# Altium footprint library SOP100P600X175-10N.PcbLib: 1 footprints
Each footprint in its own frame and in the unit in brackets; x right, y up, seen from the top. Pads: shape width x height; smd on the part's side, far side on the other; paste and mask are expansions set on the pad; w line width, h text height; cw(c..) or ccw(c..) is an arc to the next point about the centre after c.
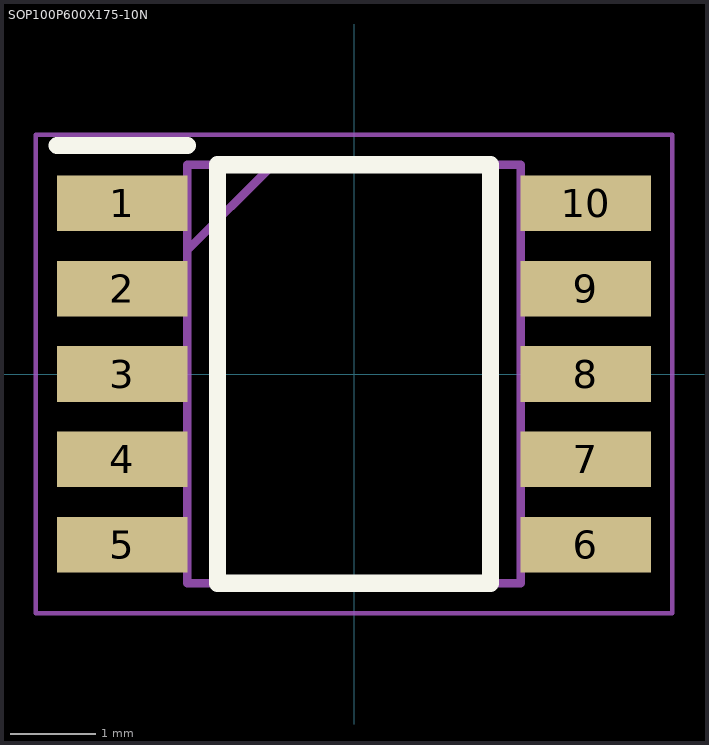
[diagram p0: the footprint, top view; thin cyan lines are the x and y axes]

## SOP100P600X175-10N [mm]
pads (10):
  rect 1.525x0.65 smd: 1(-2.712,2) 2(-2.712,1) 3(-2.712,0) 4(-2.712,-1) 5(-2.712,-2) 6(2.712,-2) 7(2.712,-1) 8(2.712,0) 9(2.712,1) 10(2.712,2)
Top Overlay:
  lines w0.2: -3.475,2.675 -1.95,2.675 ; -1.6,-2.45 1.6,-2.45 1.6,2.45 -1.6,2.45 -1.6,-2.45
Mechanical 15:
  lines w0.1: -1.95,1.45 -0.95,2.45 ; -1.95,-2.45 1.95,-2.45 1.95,2.45 -1.95,2.45 -1.95,-2.45
Mechanical 20:
  lines w0.05: -3.725,-2.8 3.725,-2.8 3.725,2.8 -3.725,2.8 -3.725,-2.8